# EAGLE library part USB_HEADER (library 1dah)
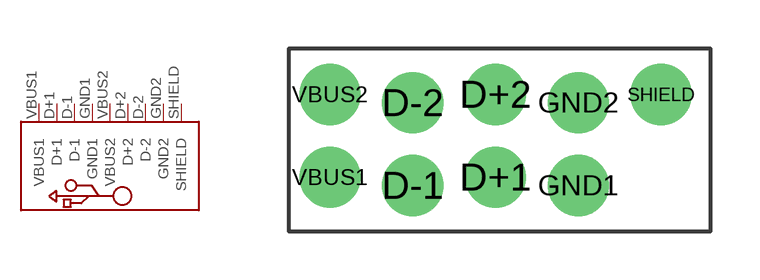
[diagram p62: symbol with the pads of USB_HEADER; footprint USB_HEADER]

Designator prefix -

## USB_HEADER  [USB_HEADER]
D+1  D+1
D+2  D+2
D-1  D-1
D-2  D-2
GND1  GND1
GND2  GND2
SHIELD  SHIELD
VBUS1  VBUS1
VBUS2  VBUS2

## Footprint USB_HEADER (pad centres in mm)
drill 1.016 pad 1.88: D+1 5.08,0.127; D+2 5.08,2.667; D-1 2.54,-0.127; D-2 2.54,2.413; GND1 7.62,-0.127; GND2 7.62,2.413; SHIELD 10.16,2.667; VBUS1 0,0.127; VBUS2 0,2.667